# Altium footprint library Resistors.PcbLib: 8 footprints
Each footprint in its own frame and in the unit in brackets; x right, y up, seen from the top. Pads: shape width x height; smd on the part's side, far side on the other; paste and mask are expansions set on the pad; w line width, h text height; cw(c..) or ccw(c..) is an arc to the next point about the centre after c.
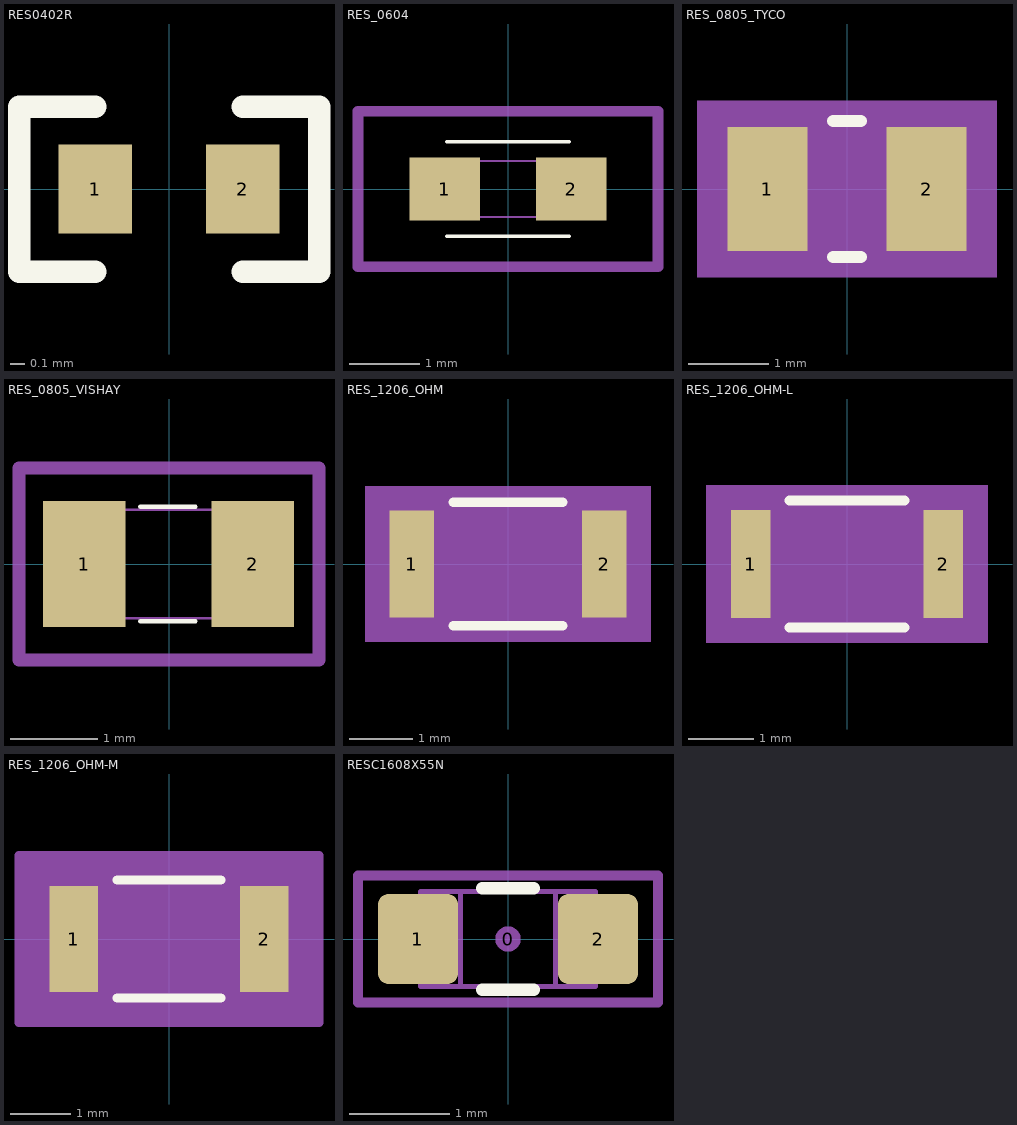
[diagram p0: the footprints below, top view; thin cyan lines are the x and y axes]

## RES0402R [mm] "resistor 0402 reflow soldering"
pads (2):
  rect 0.5x0.6 smd: 1(-0.5,0) 2(0.5,0)
Top Overlay:
  lines w0.152: -0.5,-0.559 -1.016,-0.559 -1.016,0.559 -0.5,0.559 ; 0.5,-0.559 1.016,-0.559 1.016,0.559 0.5,0.559
3D body "RES0402.stp": height 0.3, standoff 0, extent -0.5,-0.25 0.5,0.25

## RES_0604 [mm]
pads (2):
  rect 1x0.9 smd: 1(-0.9,0) 2(0.9,0)
Top Overlay:
  lines w0.051: -0.867,-0.672 0.867,-0.672 ; -0.867,0.672 0.867,0.672
Mechanical 13:
  lines w0.025: -0.775,-0.4 0.775,-0.4 0.775,0.4 -0.775,0.4 -0.775,-0.4
Mechanical 15:
  lines w0.152: -2.132,-1.104 2.132,-1.104 2.132,1.104 -2.132,1.104 -2.132,-1.104
3D body: height 0.25, standoff 0, extent -1.675,-0.85 1.675,0.85
3D body: height 0.25, standoff 0, extent 0,0 0.254,0.254

## RES_0805_TYCO [mil] "RES SMD 24.9KOHM 0.1% 1/10W 0805"
pads (2):
  rect 39.5x61 smd paste+0 mask+0: 1(-39.25,0) 2(39.25,0)
Top Overlay:
  lines w6: -6.75,-33.5 6.75,-33.5 ; -6.75,33.5 6.75,33.5
Mechanical 5:
  region: 74,-43.5 -74,-43.5 -74,43.5 74,43.5
Mechanical 13:
  lines w1: -43.5,-28.5 -43.5,28.5 43.5,28.5 43.5,-28.5 -43.5,-28.5
Mechanical 15:
  region: -53.5,-40.5 -69,-40.5 -69,40.5 -53.5,40.5 53.5,40.5 69,40.5 69,-40.5 53.5,-40.5
  lines w6: -69,-40.5 -53.5,-40.5 53.5,-40.5 69,-40.5 69,40.5 53.5,40.5 -53.5,40.5 -69,40.5 -69,-40.5
3D body "RES0805_RN73_TYCO_TYC.step": height 24.02, standoff 0, extent -43.5,-28.5 43.5,28.5
3D body: height 10, standoff 0, extent 0,0 10,10

## RES_0805_VISHAY [mm]
pads (2):
  rect 0.95x1.45 smd: 1(-0.975,0) 2(0.965,0)
Top Overlay:
  lines w0.051: -0.33,-0.66 0.305,-0.66 ; -0.33,0.66 0.305,0.66
Mechanical 13:
  lines w0.025: -1,-0.625 1,-0.625 1,0.625 -1,0.625 -1,-0.625
Mechanical 15:
  lines w0.152: -1.727,-1.104 1.727,-1.104 1.727,1.104 -1.727,1.104 -1.727,-1.104
3D body "4149.stp": height 0.5, standoff 0, extent -1,-0.625 1,0.625

## RES_1206_OHM [mm] "RES 0.05 OHM 1% 1W 1632"
height 0.022
pads (2):
  rect 0.703x1.7 smd paste+0 mask+0: 1(-1.527,0) 2(1.527,0)
Top Overlay:
  lines w0.152: -0.867,-0.977 0.867,-0.977 ; -0.867,0.977 0.867,0.977
Mechanical 5:
  region: 2.259,-1.231 -2.259,-1.231 -2.259,1.231 2.259,1.231
Mechanical 13:
  lines w0.025: -1.675,-0.85 -1.675,0.85 ; -1.675,-0.85 1.675,-0.85 ; -1.675,-0.85 -1.175,-0.85 -1.175,0.85 -1.675,0.85 ; -1.675,-0.85 -1.675,0.85 ; -1.675,0.85 1.675,0.85 ; 1.675,-0.85 1.675,0.85 ; 1.675,-0.85 1.675,0.85 ; 1.675,-0.85 1.175,-0.85 1.175,0.85 1.675,0.85
Mechanical 15:
  region: 2.132,-1.104 -2.132,-1.104 -2.132,1.104 2.132,1.104
  lines w0.152: -2.132,-1.104 2.132,-1.104 2.132,1.104 -2.132,1.104 -2.132,-1.104
3D body "RES_1206_OHM.step": height 0.55, standoff 0, extent -1.675,-0.85 1.675,0.85
3D body: height 0.25, standoff 0, extent 0,0 0.254,0.254

## RES_1206_OHM-L [mm] "RES 0.05 OHM 1% 1W 1632"
height 0.022
pads (2):
  rect 0.602x1.649 smd paste+0 mask+0: 1(-1.476,0) 2(1.476,0)
Top Overlay:
  lines w0.152: -0.879,-0.977 0.879,-0.977 ; -0.879,0.977 0.879,0.977
Mechanical 5:
  region: 2.158,-1.206 -2.158,-1.206 -2.158,1.206 2.158,1.206
Mechanical 13:
  lines w0.025: -1.675,-0.85 -1.675,0.85 ; -1.675,-0.85 -1.175,-0.85 -1.175,0.85 -1.675,0.85 ; -1.675,-0.85 1.675,-0.85 ; -1.675,-0.85 -1.675,0.85 ; -1.675,0.85 1.675,0.85 ; 1.675,-0.85 1.175,-0.85 1.175,0.85 1.675,0.85 ; 1.675,-0.85 1.675,0.85 ; 1.675,-0.85 1.675,0.85
Mechanical 15:
  region: 1.878,-0.926 -1.878,-0.926 -1.878,0.926 1.878,0.926
  lines w0.152: -1.878,-0.926 -1.878,0.926 1.878,0.926 1.878,-0.926 -1.878,-0.926
3D body: height 0.25, standoff 0, extent 0,0 0.254,0.254
3D body "RES_1206_OHM.step": height 0.55, standoff 0, extent -1.675,-0.85 1.675,0.85

## RES_1206_OHM-M [mm] "RES 0.05 OHM 1% 1W 1632"
height 0.85
pads (2):
  rect 0.805x1.751 smd paste+0 mask+0: 1(-1.577,0) 2(1.577,0)
Top Overlay:
  lines w0.152: -0.858,-0.977 0.858,-0.977 ; -0.858,0.977 0.858,0.977
Mechanical 5:
  region: 2.361,-1.256 -2.361,-1.256 -2.361,1.256 2.361,1.256
Mechanical 13:
  lines w0.025: -1.675,-0.85 -1.675,0.85 ; -1.675,-0.85 -1.175,-0.85 -1.175,0.85 -1.675,0.85 ; -1.675,-0.85 1.675,-0.85 ; -1.675,-0.85 -1.675,0.85 ; -1.675,0.85 1.675,0.85 ; 1.675,-0.85 1.175,-0.85 1.175,0.85 1.675,0.85 ; 1.675,-0.85 1.675,0.85 ; 1.675,-0.85 1.675,0.85
Mechanical 15:
  region: 2.488,-1.383 -2.488,-1.383 -2.488,1.383 2.488,1.383
  lines w0.152: -2.488,-1.383 -2.488,1.383 2.488,1.383 2.488,-1.383 -2.488,-1.383
3D body: height 0.25, standoff 0, extent 0,0 0.254,0.254
3D body "RES_1206_OHM.step": height 0.55, standoff 0, extent -1.675,-0.85 1.675,0.85

## RESC1608X55N [mm] "Chip Resistor, Body 1.6x0.8mm, EIA 0603, IPC Medium Density"
height 0.55
pads (3):
  round 0.254 on Mech15: 0(0,0)
  rrect25% 0.8x0.9 smd mask+0.07: 1(-0.9,0) 2(0.9,0)
Top Overlay:
  lines w0.127: -0.254,-0.508 0.254,-0.508 ; -0.254,0.508 0.254,0.508
Mechanical 13:
  lines w0.05: -0.875,-0.475 -0.475,-0.475 -0.475,0.475 -0.875,0.475 -0.875,-0.475 ; -0.475,-0.474 0.475,-0.474 -0.475,-0.474 ; -0.475,0.474 0.475,0.474 -0.475,0.474 ; 0.475,-0.475 0.475,0.475 0.875,0.475 0.875,-0.475 0.475,-0.475
Mechanical 15:
  lines w0.1: -1.5,-0.635 -1.5,0.635 1.5,0.635 1.5,-0.635 -1.5,-0.635
3D body "RES 0603 (1608 metric).STEP": height 0.54, standoff -0.01, extent -0.875,-0.475 0.875,0.475